# EAGLE library part MCP1253-MS (library _RoweTel)
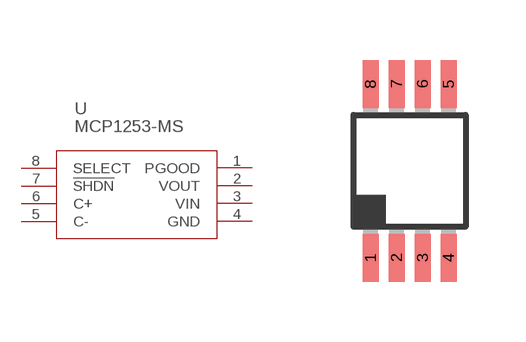
[diagram p42: symbol with the pads of MSOP-8; footprint MSOP-8]

Designator prefix U

## MCP1253-MS  [MSOP-8]
1  PGOOD
2  VOUT
3  VIN
4  GND
5  C-
6  C+
7  !SHDN
8  SELECT

## Footprint MSOP-8 (pad centres in mm)
smd 0.4 x 1.2: 1 -0.975,-2.175; 2 -0.325,-2.175; 3 0.325,-2.175; 4 0.975,-2.175; 5 0.975,2.175; 6 0.325,2.175; 7 -0.325,2.175; 8 -0.975,2.175